# Altium footprint library cornell-dubilier.PcbLib: 4 footprints
Each footprint in its own frame and in the unit in brackets; x right, y up, seen from the top. Pads: shape width x height; smd on the part's side, far side on the other; paste and mask are expansions set on the pad; w line width, h text height; cw(c..) or ccw(c..) is an arc to the next point about the centre after c.
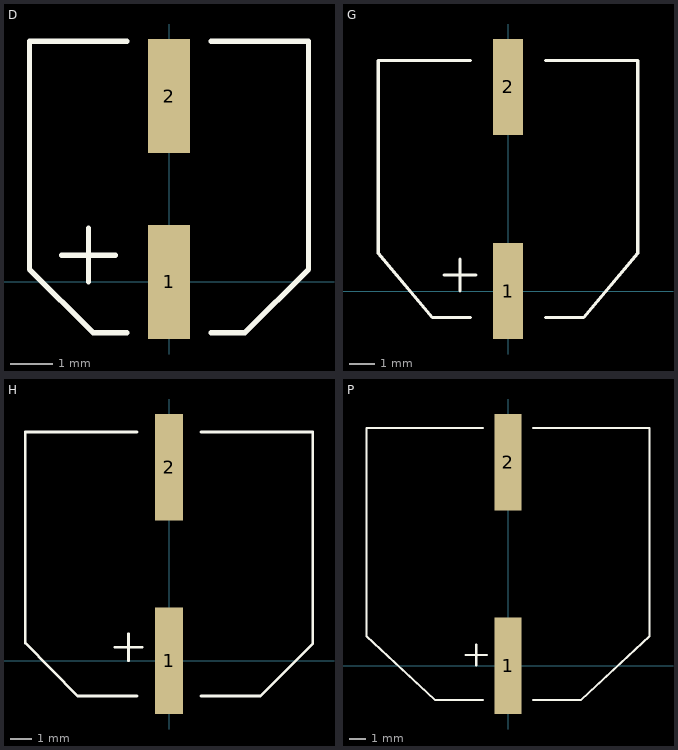
[diagram p0: the footprints below, top view; thin cyan lines are the x and y axes]

## D [mm] "D Size, Polarized, SMD Capacitor"
height 7.7
pads (2):
  rect 1x2.7 smd: 1(0,0) 2(0,4.4)
Top Overlay:
  lines w0.127: -2.54,0.635 -1.27,0.635 ; -1.905,0 -1.905,1.27 ; -1,-1.2 -1.8,-1.2 -3.3,0.3 -3.3,5.7 -1,5.7 ; 1,-1.2 1.8,-1.2 3.3,0.3 3.3,5.7 1,5.7
3D body: height 5.81, standoff 0.01, extent -3.125,-0.731 3.15,5.557

## G [mm] "G Size, Polarized, SMD Capacitor"
height 16.5
pads (2):
  rect 1.2x3.8 smd: 1(0,0) 2(0,8.1)
Top Overlay:
  lines w0.127: -2.54,0.635 -1.27,0.635 ; -1.905,0 -1.905,1.27 ; -1.5,-1.05 -3,-1.05 -5.15,1.5 -5.15,9.15 -1.5,9.15 ; 1.5,-1.05 3,-1.05 5.15,1.5 5.15,9.15 1.5,9.15
3D body: height 10.21, standoff 0.01, extent -5.008,-1.053 4.953,8.927

## H [mm] "H Size, Polarized, SMD Capacitor"
height 16.5
pads (2):
  rect 1.3x5 smd: 1(0,0) 2(0,9.1)
Top Overlay:
  lines w0.127: -2.54,0.635 -1.27,0.635 ; -1.905,0 -1.905,1.27 ; -1.5,-1.65 -4.3,-1.65 -6.75,0.83 -6.75,10.75 -1.5,10.75 ; 1.5,-1.65 4.3,-1.65 6.75,0.8 6.75,10.75 1.5,10.75
3D body: height 13.51, standoff 0.01, extent -6.201,-1.666 6.25,10.81

## P [mm] "P Size, Polarized, SMD Capacitor"
height 16.5
pads (2):
  rect 1.6x5.8 smd: 1(0,0) 2(0,12.2)
Top Overlay:
  lines w0.127: -2.54,0.635 -1.27,0.635 ; -1.905,0 -1.905,1.27 ; -1.5,-2.05 -4.388,-2.05 -8.5,1.777 -8.5,14.25 -1.5,14.25 ; 1.5,-2.05 4.388,-2.05 8.5,1.777 8.5,14.25 1.5,14.25
3D body: height 16.51, standoff 0.01, extent -7.936,-1.761 8.001,14.207